# Altium integrated library SRV05.IntLib: 1 symbol
Pins are listed as number, name and electrical type; pins without a type are passive.

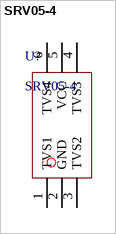
[diagram p0: symbol SRV05-4]

## SRV05-4
designator U?
footprint SRV05-4(SOT95P280X145-6N) (SOT23, 6-Leads, Body 3.0x2.8mm (max), Pitch 0.95mm, IPC Medium Density)
pins: 1 TVS1, 2 GND, 3 TVS2, 4 TVS3, 5 VCC, 6 TVS4